# Altium footprint library conn_sw.PCBLIB: 173 footprints (part 4 of 11)
Each footprint in its own frame and in the unit in brackets; x right, y up, seen from the top. Pads: shape width x height; smd on the part's side, far side on the other; paste and mask are expansions set on the pad; w line width, h text height; cw(c..) or ccw(c..) is an arc to the next point about the centre after c.
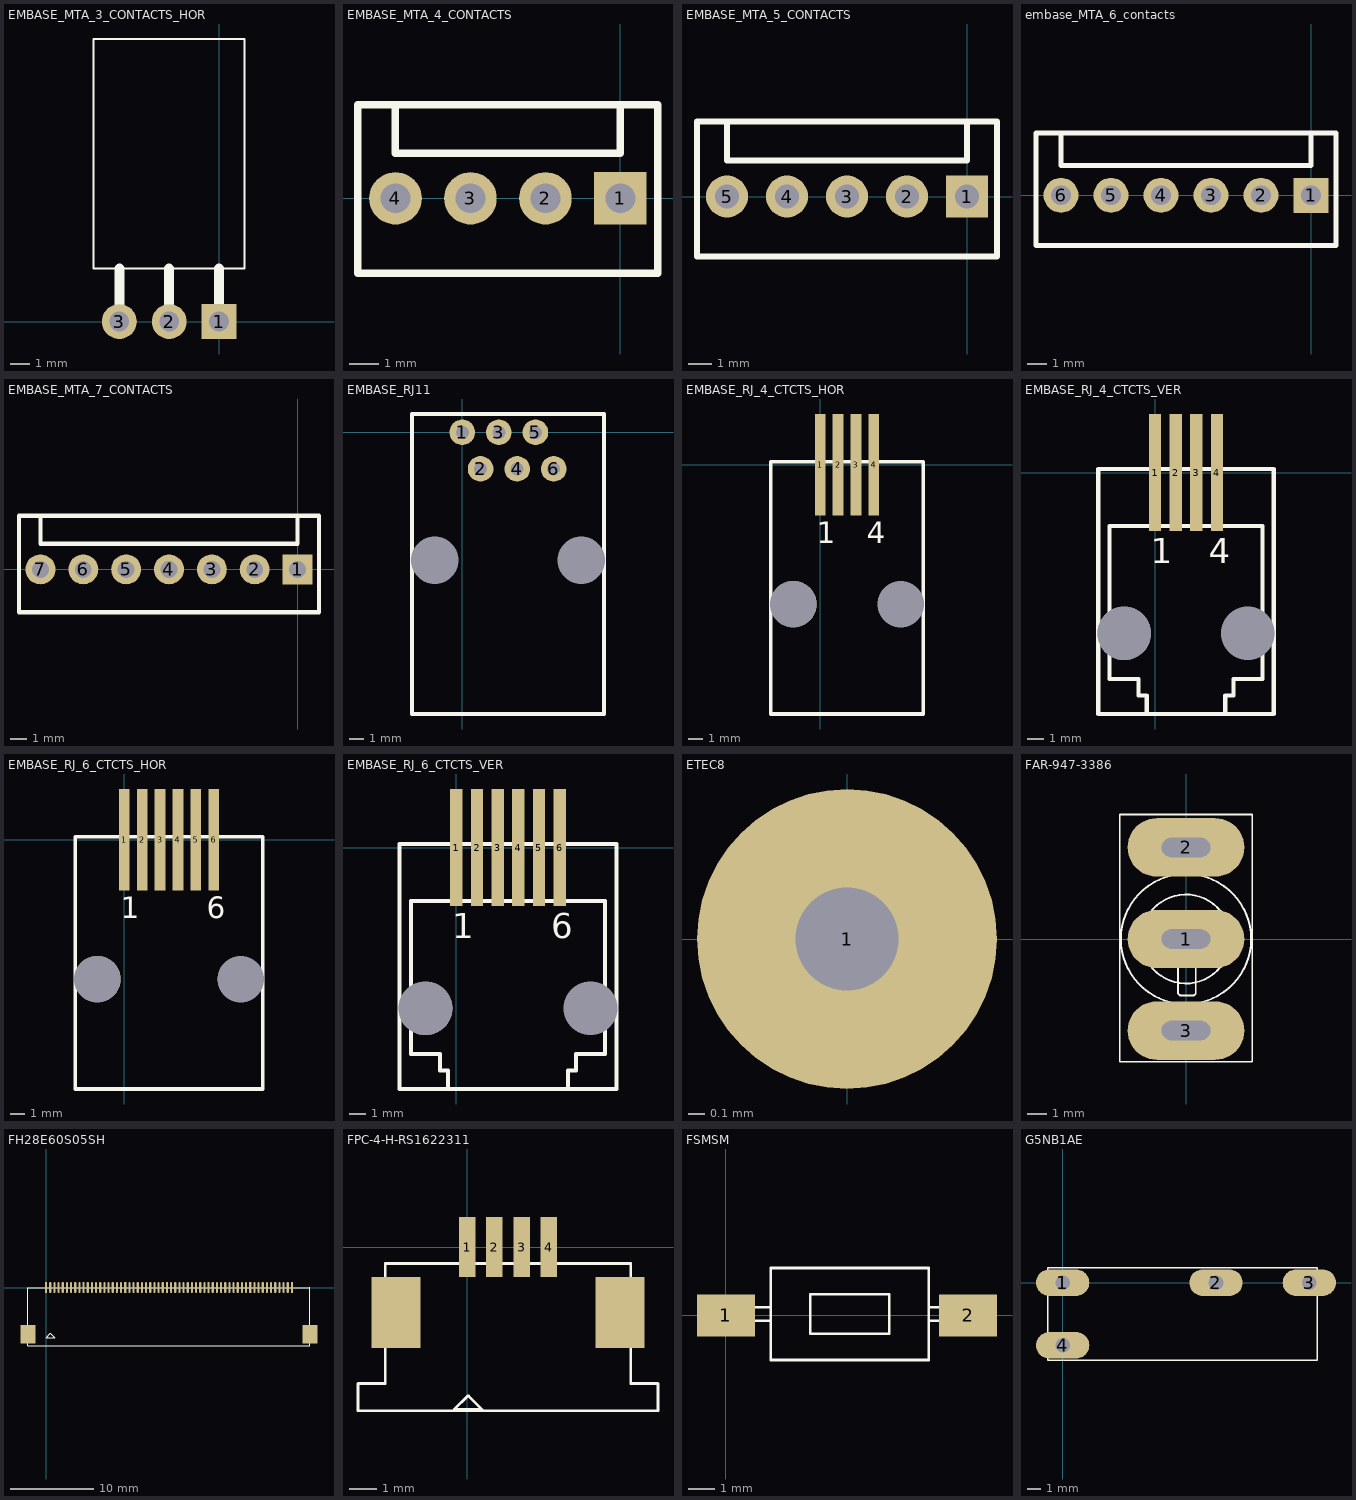
[diagram p3: the footprints below, top view; thin cyan lines are the x and y axes]

## EMBASE_MTA_3_CONTACTS_HOR [mil]
pads (3):
  rect 70x70 hole 39.37: 1(0,0)
  round 70 hole 39.37: 2(-100,0) 3(-200,0)
Top Overlay:
  lines w3.94: -251.97,106.3 -251.97,566.93 51.18,566.93 51.18,106.3 -251.97,106.3
  lines w7.87: -100,0 -98.43,1.57
  lines w19.68: -200,0 -200,106.3 ; -100.39,0.39 -100.39,106.3 ; 0,0 0,106.3

## EMBASE_MTA_4_CONTACTS [mil]
pads (4):
  rect 70x70 hole 39.37: 1(0,0)
  round 70 hole 39.37: 2(-100,0) 3(-200,0) 4(-300,0)
Top Overlay:
  lines w10: -300,125 -300,60 0,60 0,125 ; -350,-100 50,-100 50,125 -350,125 -350,-100

## EMBASE_MTA_5_CONTACTS [mil]
pads (5):
  rect 70x70 hole 39.37: 1(0,0)
  round 70 hole 39.37: 2(-100,0) 3(-200,0) 4(-300,0) 5(-400,0)
Top Overlay:
  lines w10: -400,125 -400,60 0,60 0,125 ; -450,-100 50,-100 50,125 -450,125 -450,-100

## embase_MTA_6_contacts [mil]
pads (6):
  rect 70x70 hole 39.37: 1(0,0)
  round 70 hole 39.37: 2(-100,0) 3(-200,0) 4(-300,0) 5(-400,0) 6(-500,0)
Top Overlay:
  lines w10: -500,125 -500,60 0,60 0,125 ; -550,-100 50,-100 50,125 -550,125 -550,-100

## EMBASE_MTA_7_CONTACTS [mil]
pads (7):
  rect 70x70 hole 39.37: 1(0,0)
  round 70 hole 39.37: 2(-100,0) 3(-200,0) 4(-300,0) 5(-400,0) 6(-500,0) 7(-600,0)
Top Overlay:
  lines w10: -600,125 -600,60 0,60 0,125 ; -650,-100 -650,125 50,125 50,-100 -650,-100

## EMBASE_RJ11 [mil]
pads (8):
  round 70 hole 35.43: 1(0,0) 2(50,-100) 3(100,0) 4(150,-100) 5(200,0) 6(250,-100)
  round 70 hole 129.92: ""(-75,-350) ""(325,-350)
Top Overlay:
  lines w10: -137.6,-770.08 -137.6,50 387.6,50 387.6,-770.08 -137.6,-770.08

## EMBASE_RJ_4_CTCTS_HOR [mm]
pads (6):
  rect 0.76x7.2 smd: 1(0,0) 2(1.27,0) 3(2.54,0) 4(3.81,0)
  round 3.3 hole 3.3: ""(-1.905,-9.9)
  round 3.251 hole 3.3: ""(5.715,-9.9)
Top Overlay:
  lines w0.254: -3.495,-17.7 -3.495,0.22 7.305,0.22 7.305,-17.7 -3.495,-17.7
  text "4" at 3.302,-5.588 h1.52
  text "1" at -0.254,-5.588 h1.52

## EMBASE_RJ_4_CTCTS_VER [mm]
pads (6):
  rect 0.76x7.2 smd: 1(0,0) 2(1.27,0) 3(2.54,0) 4(3.81,0)
  round 3.3 hole 3.3: ""(-1.905,-9.9)
  round 3.251 hole 3.3: ""(5.715,-9.9)
Top Overlay:
  lines w0.254: -0.508,-14.86 -0.508,-13.716 -1.016,-13.716 -1.016,-12.7 -2.794,-12.7 -2.794,-3.302 6.604,-3.302 6.604,-12.7 4.826,-12.7 4.826,-13.716 4.318,-13.716 4.318,-14.86 ; -3.495,-14.86 7.305,-14.86 7.305,0.22 -3.495,0.22 -3.495,-14.86
  text "1" at -0.254,-5.588 h1.52
  text "4" at 3.302,-5.588 h1.52

## EMBASE_RJ_6_CTCTS_HOR [mm]
pads (8):
  rect 0.76x7.2 smd: 1(0,0) 2(1.27,0) 3(2.54,0) 4(3.81,0) 5(5.08,0) 6(6.35,0)
  round 3.3 hole 3.3: ""(-1.905,-9.9)
  round 3.251 hole 3.3: ""(8.255,-9.9)
Top Overlay:
  lines w0.254: -3.495,-17.7 -3.495,0.22 9.845,0.22 9.845,-17.7 -3.495,-17.7
  text "6" at 5.842,-5.588 h1.52
  text "1" at -0.254,-5.588 h1.52

## EMBASE_RJ_6_CTCTS_VER [mm]
pads (8):
  rect 0.76x7.2 smd: 1(0,0) 2(1.27,0) 3(2.54,0) 4(3.81,0) 5(5.08,0) 6(6.35,0)
  round 3.3 hole 3.3: ""(-1.905,-9.9)
  round 3.251 hole 3.3: ""(8.255,-9.9)
Top Overlay:
  lines w0.254: -0.508,-14.86 -0.508,-13.716 -1.016,-13.716 -1.016,-12.7 -2.794,-12.7 -2.794,-3.302 9.144,-3.302 9.144,-12.7 7.366,-12.7 7.366,-13.716 6.858,-13.716 6.858,-14.86 ; -3.495,-14.86 9.845,-14.86 9.845,0.22 -3.495,0.22 -3.495,-14.86
  text "1" at -0.254,-5.588 h1.52
  text "6" at 5.842,-5.588 h1.52

## ETEC8 [mil]
pads (1):
  round 70 hole 24: 1(0,0)

## FAR-947-3386 [mm]
pads (3):
  oval 6x3 hole 1 slot 2.5 at 0 deg: 1(0,0) 2(0,4.7) 3(0,-4.7)
Top Overlay:
  circle w0.1: c0,0 r3.342
  circle w0.1: c0,0 r2.283
  lines w0.1: -0.4,0 -0.4,-2.8 -0.3,-2.9 0.4,-2.9 0.5,-2.8 0.5,-0.4 ; 3.4,0 3.4,6.4 -3.4,6.4 -3.4,0 -3.4,-6.3 3.4,-6.3 3.4,0.1

## FH28E60S05SH [mm]
pads (62):
  rect 0.25x1.3 smd: A1(0,0) A10(4.5,0) A20(9.5,0) A30(14.5,0) A40(19.5,0) A50(24.5,0) A60(29.5,0)
  oval 0.25x1.3 smd: A2(0.5,0) A3(1,0) A4(1.5,0) A5(2,0) A6(2.5,0) A7(3,0) A8(3.5,0) A9(4,0) A11(5,0) A12(5.5,0) A13(6,0) A14(6.5,0) A15(7,0) A16(7.5,0) A17(8,0) A18(8.5,0) A19(9,0) A21(10,0) A22(10.5,0) A23(11,0) A24(11.5,0) A25(12,0) A26(12.5,0) A27(13,0) A28(13.5,0) A29(14,0) A31(15,0) A32(15.5,0) A33(16,0) A34(16.5,0) A35(17,0) A36(17.5,0) A37(18,0) A38(18.5,0) A39(19,0) A41(20,0) A42(20.5,0) A43(21,0) A44(21.5,0) A45(22,0) A46(22.5,0) A47(23,0) A48(23.5,0) A49(24,0) A51(25,0) A52(25.5,0) A53(26,0) A54(26.5,0) A55(27,0) A56(27.5,0) A57(28,0) A58(28.5,0) A59(29,0)
  rect 1.8x2.2 smd: ""(-2.15,-5.6) ""(31.65,-5.6)
Top Overlay:
  lines w0.1: -2.225,-7 -2.225,0 -2,0 31,0 31.625,0 31.65,0.025 31.65,-7 26.025,-7 -2,-7 -2.225,-7 ; 0,-6 0.5,-5.5 0.525,-5.5 1.025,-6 0,-6

## FPC-4-H-RS1622311 [mm]
pads (6):
  rect 0.6x2.2 smd: 1(0,0) 2(1,0) 3(2,0) 4(3,0)
  rect 1.8x2.6 smd: ""(-2.6,-2.4) ""(5.6,-2.4)
Top Overlay:
  lines w0.1: -2,-6 5,-6 ; -4,-6 5.2,-6 7,-6 7,-5 6,-5 6,-0.6 -3,-0.6 -3,-5 -4,-5 -4,-6 ; -0.475,-5.95 0.025,-5.45 0.05,-5.45 0.55,-5.95 -0.475,-5.95

## FSMSM [mm]
pads (2):
  rect 2.2x1.6 smd: 1(0,0) 2(9.2,0)
Top Overlay:
  lines w0.1: 1.7,-0.2 0.2,-0.2 0.2,0.3 1.7,0.3 ; 7.7,-0.2 9.2,-0.2 9.2,0.3 7.7,0.3 ; 1.7,-1.7 7.7,-1.7 7.7,1.8 1.7,1.8 1.7,-1.7 ; 3.2,-0.7 6.2,-0.7 6.2,0.8 3.2,0.8 3.2,-0.7

## G5NB1AE [mm]
pads (4):
  oval 4x2 hole 1.1: 1(0,0) 2(11.5,0) 3(18.5,0) 4(0,-4.7)
Top Overlay:
  lines w0.1: -1.1,-5.8 -1.1,1.1 19.1,1.1 19.1,-5.8 -1.1,-5.8